# Altium footprint library AT25SF161-SSHD-T.PcbLib: 2 footprints
Each footprint in its own frame and in the unit in brackets; x right, y up, seen from the top. Pads: shape width x height; smd on the part's side, far side on the other; paste and mask are expansions set on the pad; w line width, h text height; cw(c..) or ccw(c..) is an arc to the next point about the centre after c.
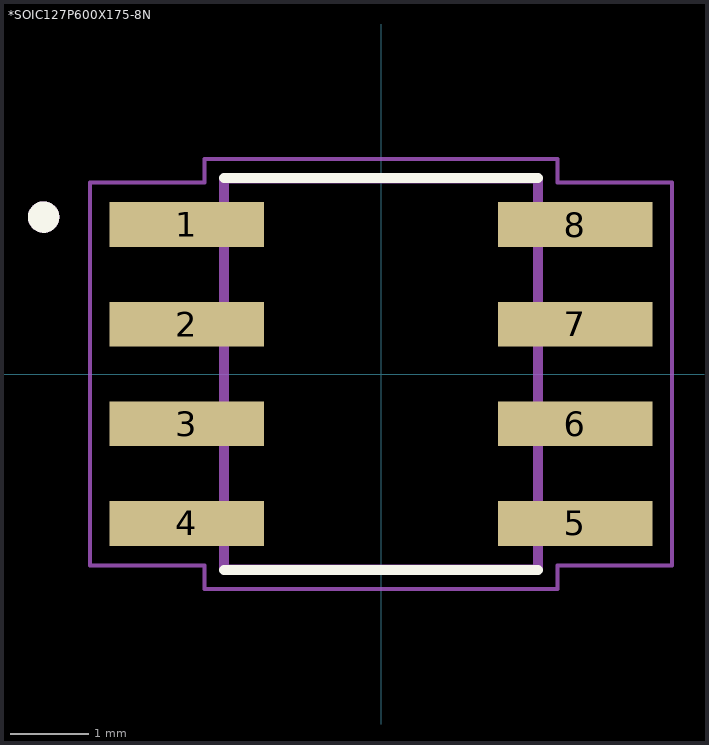
[diagram p0: the footprints below, top view; thin cyan lines are the x and y axes]

## *SOIC127P600X175-8N [mm]
pads (8):
  rect 1.97x0.57 smd: 1(-2.475,1.905) 2(-2.475,0.635) 3(-2.475,-0.635) 4(-2.475,-1.905) 5(2.475,-1.905) 6(2.475,-0.635) 7(2.475,0.635) 8(2.475,1.905)
Top Overlay:
  circle w0.2: c-4.3,2 r0.1
  lines w0.127: -2,-2.5 2,-2.5 ; -2,2.5 2,2.5
Mechanical 4:
  circle w0.2: c-4.3,2 r0.1
  circle w0.2: c-4.3,2 r0.1
  lines w0.127: -2,-2.49 -2,2.49 ; -2,-2.49 2,-2.49 ; -2,-2.49 -2,2.49 ; -2,-2.49 2,-2.49 ; -2,2.49 2,2.49 ; -2,2.49 2,2.49 ; 2,-2.49 2,2.49 ; 2,-2.49 2,2.49
Mechanical 16:
  lines w0.05: -3.71,-2.44 -3.71,2.44 -2.25,2.44 -2.25,2.74 2.25,2.74 2.25,2.44 3.71,2.44 3.71,-2.44 2.25,-2.44 2.25,-2.74 -2.25,-2.74 -2.25,-2.44 -3.71,-2.44

## PCBComponent_1 [mm]